# EAGLE library part LTC4412 (library U-Linear-LTC4412-Ideal-Diode)
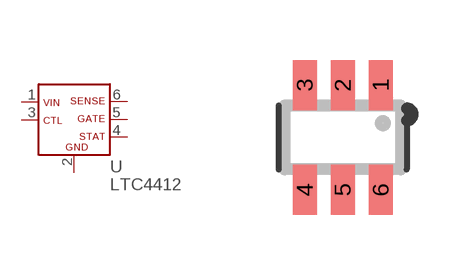
[diagram p0: symbol with the pads of SOT23-6; footprint SOT23-6]

Designator prefix U

## LTC4412  [SOT23-6]
1  VIN  pwr
2  GND  pwr
3  CTL  in
4  STAT  oc
5  GATE  out
6  SENSE  in

## Footprint SOT23-6 (pad centres in mm)
SOT23-6 Small Outline Transistor 6-pin package, 0.95 mm pitch TI DBV (R-PDSO-G5) (Falls within JEDEC MO-178 variation AA) Using 1.25 x 0.6 mm pads, mask clearance 0.07 mm, paste inset 0.025 mm.
smd 0.6 x 1.25: 1 0.95,1.31; 2 0,1.31; 3 -0.95,1.31; 4 -0.95,-1.31; 5 0,-1.31; 6 0.95,-1.31